# Altium footprint library PowerJack.PcbLib: 1 footprints
Each footprint in its own frame and in the unit in brackets; x right, y up, seen from the top. Pads: shape width x height; smd on the part's side, far side on the other; paste and mask are expansions set on the pad; w line width, h text height; cw(c..) or ccw(c..) is an arc to the next point about the centre after c.
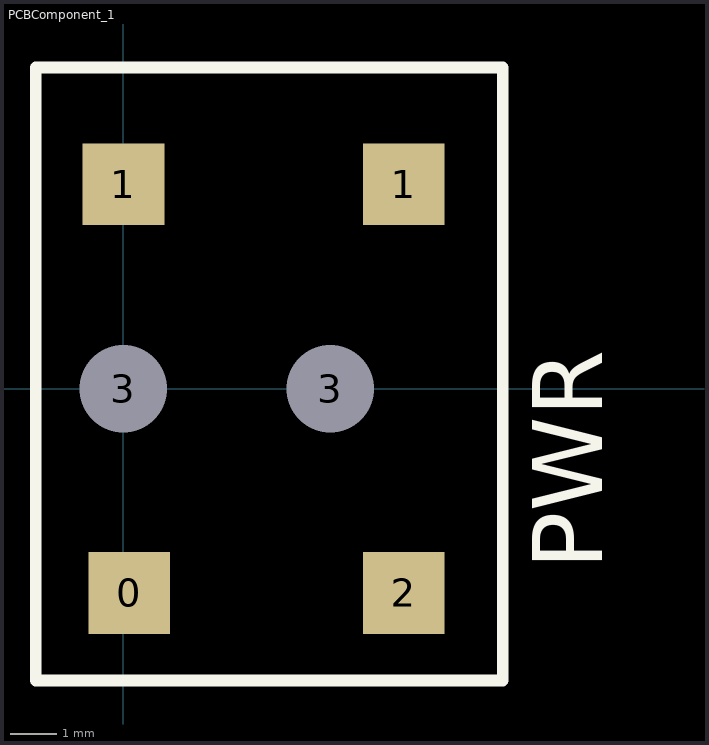
[diagram p0: the footprint, top view; thin cyan lines are the x and y axes]

## PCBComponent_1 [mil]
pads (6):
  rect 70x70 smd: 0(5,-175) 1(0,175) 1(240,175) 2(240,-175)
  round 60 hole 75 unplated: 3(0,0) 3(177,0)
Top Overlay:
  lines w10: -75,-250 325,-250 325,275 -75,275 -75,-250
  text "PWR" at 410,-155 h60